# EAGLE library part ADS131M08QPBSRQ1 (library ADS131M08QPBSRQ1)
Analog to Digital Converters - ADC Automotive, eight-channel, 24-bit, 32-kSPS, simultaneous-sampling, delta-sigma ADC Source: Datasheet <https://www.ti.com/lit/ds/symlink/ads131m08-q1.pdf?HQS=dis-mous-null-mousermode-dsf-pf-null-wwe&ts=1673864581738&ref_url=https%3A%2F%2Fwww.ti.com%2Fgeneral%2Fdocs%2Fsuppproductinfo.tsp%3FdistId%3D26%26gotoUrl%3Dhttps%3A%2F%2Fwww.>
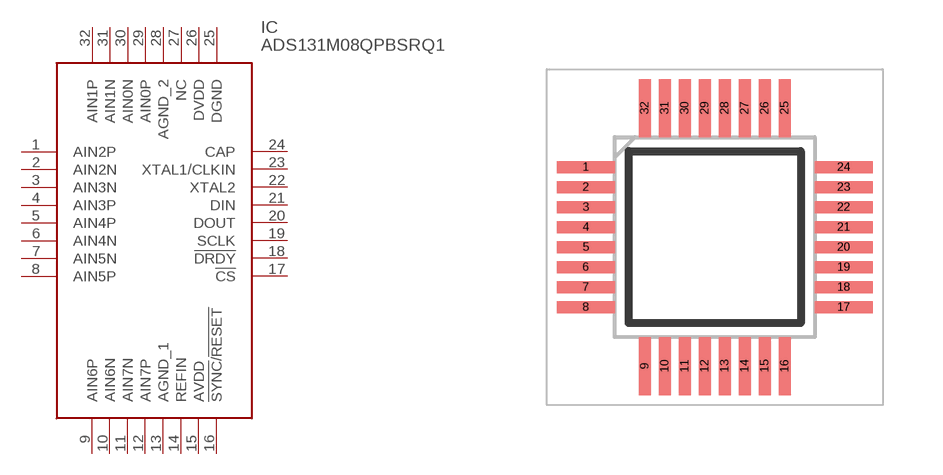
[diagram p0: symbol with the pads of QFP50P700X700X120-32N; footprint QFP50P700X700X120-32N]

Designator prefix IC

## ADS131M08QPBSRQ1 (Description: Analog to Digital Converters - ADC Automotive, eight-channel, 24-bit, 32-kSPS, simultaneous-sampling, delta-sigma ADC; Height: 1.2mm; Manufacturer_Name: Texas Instruments; Manufacturer_Part_Number: ADS131M08QPBSRQ1; Mouser_Part_Number: 595-ADS131M08QPBSRQ1; Mouser_Price-Stock: https://www.mouser.co.uk/ProductDetail/Texas-Instruments/ADS131M08QPBSRQ1?qs=By6Nw2ByBD1kYCTLuI53zA%3D%3D)  [QFP50P700X700X120-32N]
1  AIN2P
2  AIN2N
3  AIN3N
4  AIN3P
5  AIN4P
6  AIN4N
7  AIN5N
8  AIN5P
9  AIN6P
10  AIN6N
11  AIN7N
12  AIN7P
13  AGND_1
14  REFIN
15  AVDD
16  !SYNC!/!RESET
17  !CS
18  !DRDY
19  SCLK
20  DOUT
21  DIN
22  XTAL2
23  XTAL1/CLKIN
24  CAP
25  DGND
26  DVDD
27  NC  nc
28  AGND_2
29  AIN0P
30  AIN0N
31  AIN1N
32  AIN1P

## Footprint QFP50P700X700X120-32N (pad centres in mm)
PBS (S-PQFP-G32)
smd 1.45 x 0.3: 1 -3.225,1.75; 2 -3.225,1.25; 3 -3.225,0.75; 4 -3.225,0.25; 5 -3.225,-0.25; 6 -3.225,-0.75; 7 -3.225,-1.25; 8 -3.225,-1.75; 17 3.225,-1.75; 18 3.225,-1.25; 19 3.225,-0.75; 20 3.225,-0.25; 21 3.225,0.25; 22 3.225,0.75; 23 3.225,1.25; 24 3.225,1.75
smd 0.3 x 1.45: 9 -1.75,-3.225; 10 -1.25,-3.225; 11 -0.75,-3.225; 12 -0.25,-3.225; 13 0.25,-3.225; 14 0.75,-3.225; 15 1.25,-3.225; 16 1.75,-3.225; 25 1.75,3.225; 26 1.25,3.225; 27 0.75,3.225; 28 0.25,3.225; 29 -0.25,3.225; 30 -0.75,3.225; 31 -1.25,3.225; 32 -1.75,3.225